# Altium schematic symbol library ST2378E.SchLib: 1 symbol
Pins are listed as number, name and electrical type; pins without a type are passive.

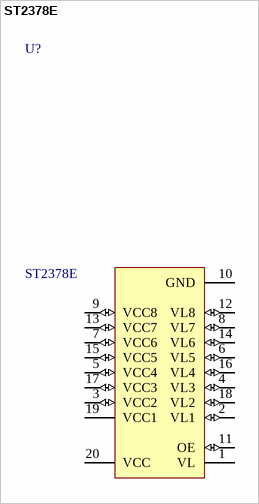
[diagram p0: symbol ST2378E]

## ST2378E
designator U?
8-Bit Level Translator
footprint TSSOP-20
simulation model SN74F245 (SIMCODE)
signal-integrity model SN54F245J
pins: 1 VL, 2 VL1 (io), 3 VCC2 (io), 4 VL3 (io), 5 VCC4 (io), 6 VL5 (io), 7 VCC6 (io), 8 VL7 (io), 9 VCC8 (io), 10 GND (power), 11 OE (io), 12 VL8 (io), 13 VCC7 (io), 14 VL6 (io), 15 VCC5 (io), 16 VL4 (io), 17 VCC3 (io), 18 VL2 (io), 19 VCC1, 20 VCC (power)